# EAGLE library part MEGA164-M (library avrs)
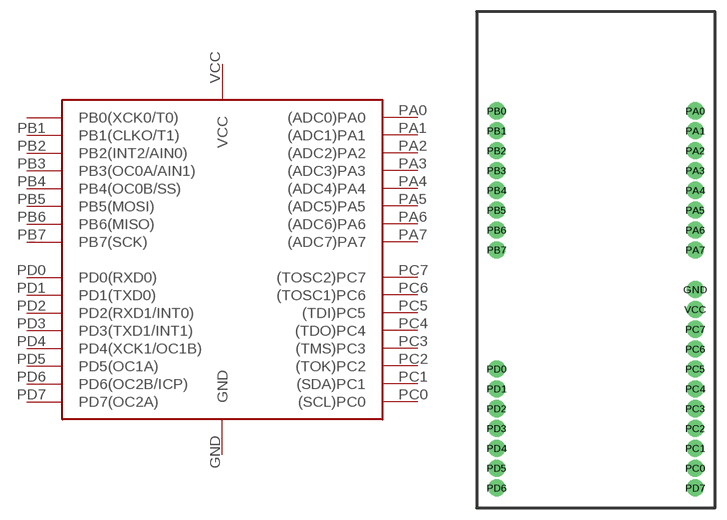
[diagram p10: symbol with the pads of MEGA164; footprint MEGA164]

Designator prefix -

## MEGA164-M  [MEGA164]
GND  GND
PA0  (ADC0)PA0
PA1  (ADC1)PA1
PA2  (ADC2)PA2
PA3  (ADC3)PA3
PA4  (ADC4)PA4
PA5  (ADC5)PA5
PA6  (ADC6)PA6
PA7  (ADC7)PA7
PB0  PB0(XCK0/T0)
PB1  PB1(CLKO/T1)
PB2  PB2(INT2/AIN0)
PB3  PB3(OC0A/AIN1)
PB4  PB4(OC0B/SS)
PB5  PB5(MOSI)
PB6  PB6(MISO)
PB7  PB7(SCK)
PC0  (SCL)PC0
PC1  (SDA)PC1
PC2  (TOK)PC2
PC3  (TMS)PC3
PC4  (TDO)PC4
PC5  (TDI)PC5
PC6  (TOSC1)PC6
PC7  (TOSC2)PC7
PD0  PD0(RXD0)
PD1  PD1(TXD0)
PD2  PD2(RXD1/INT0)
PD3  PD3(TXD1/INT1)
PD4  PD4(XCK1/OC1B)
PD5  PD5(OC1A)
PD6  PD6(OC2B/ICP)
PD7  PD7(OC2A)
VCC  VCC

## Footprint MEGA164 (pad centres in mm)
drill 0.8 pad 2.184: GND 12.7,-2.54; PA0 12.7,20.32; PA1 12.7,17.78; PA2 12.7,15.24; PA3 12.7,12.7; PA4 12.7,10.16; PA5 12.7,7.62; PA6 12.7,5.08; PA7 12.7,2.54; PB0 -12.7,20.32; PB1 -12.7,17.78; PB2 -12.7,15.24; PB3 -12.7,12.7; PB4 -12.7,10.16; PB5 -12.7,7.62; PB6 -12.7,5.08; PB7 -12.7,2.54; PC0 12.7,-25.4; PC1 12.7,-22.86; PC2 12.7,-20.32; PC3 12.7,-17.78; PC4 12.7,-15.24; PC5 12.7,-12.7; PC6 12.7,-10.16; PC7 12.7,-7.62; PD0 -12.7,-12.7; PD1 -12.7,-15.24; PD2 -12.7,-17.78; PD3 -12.7,-20.32; PD4 -12.7,-22.86; PD5 -12.7,-25.4; PD6 -12.7,-27.94; PD7 12.7,-27.94; VCC 12.7,-5.08